# Altium footprint library User_lfy.PcbLib: 18 footprints (part 1 of 2)
Each footprint in its own frame and in the unit in brackets; x right, y up, seen from the top. Pads: shape width x height; smd on the part's side, far side on the other; paste and mask are expansions set on the pad; w line width, h text height; cw(c..) or ccw(c..) is an arc to the next point about the centre after c.
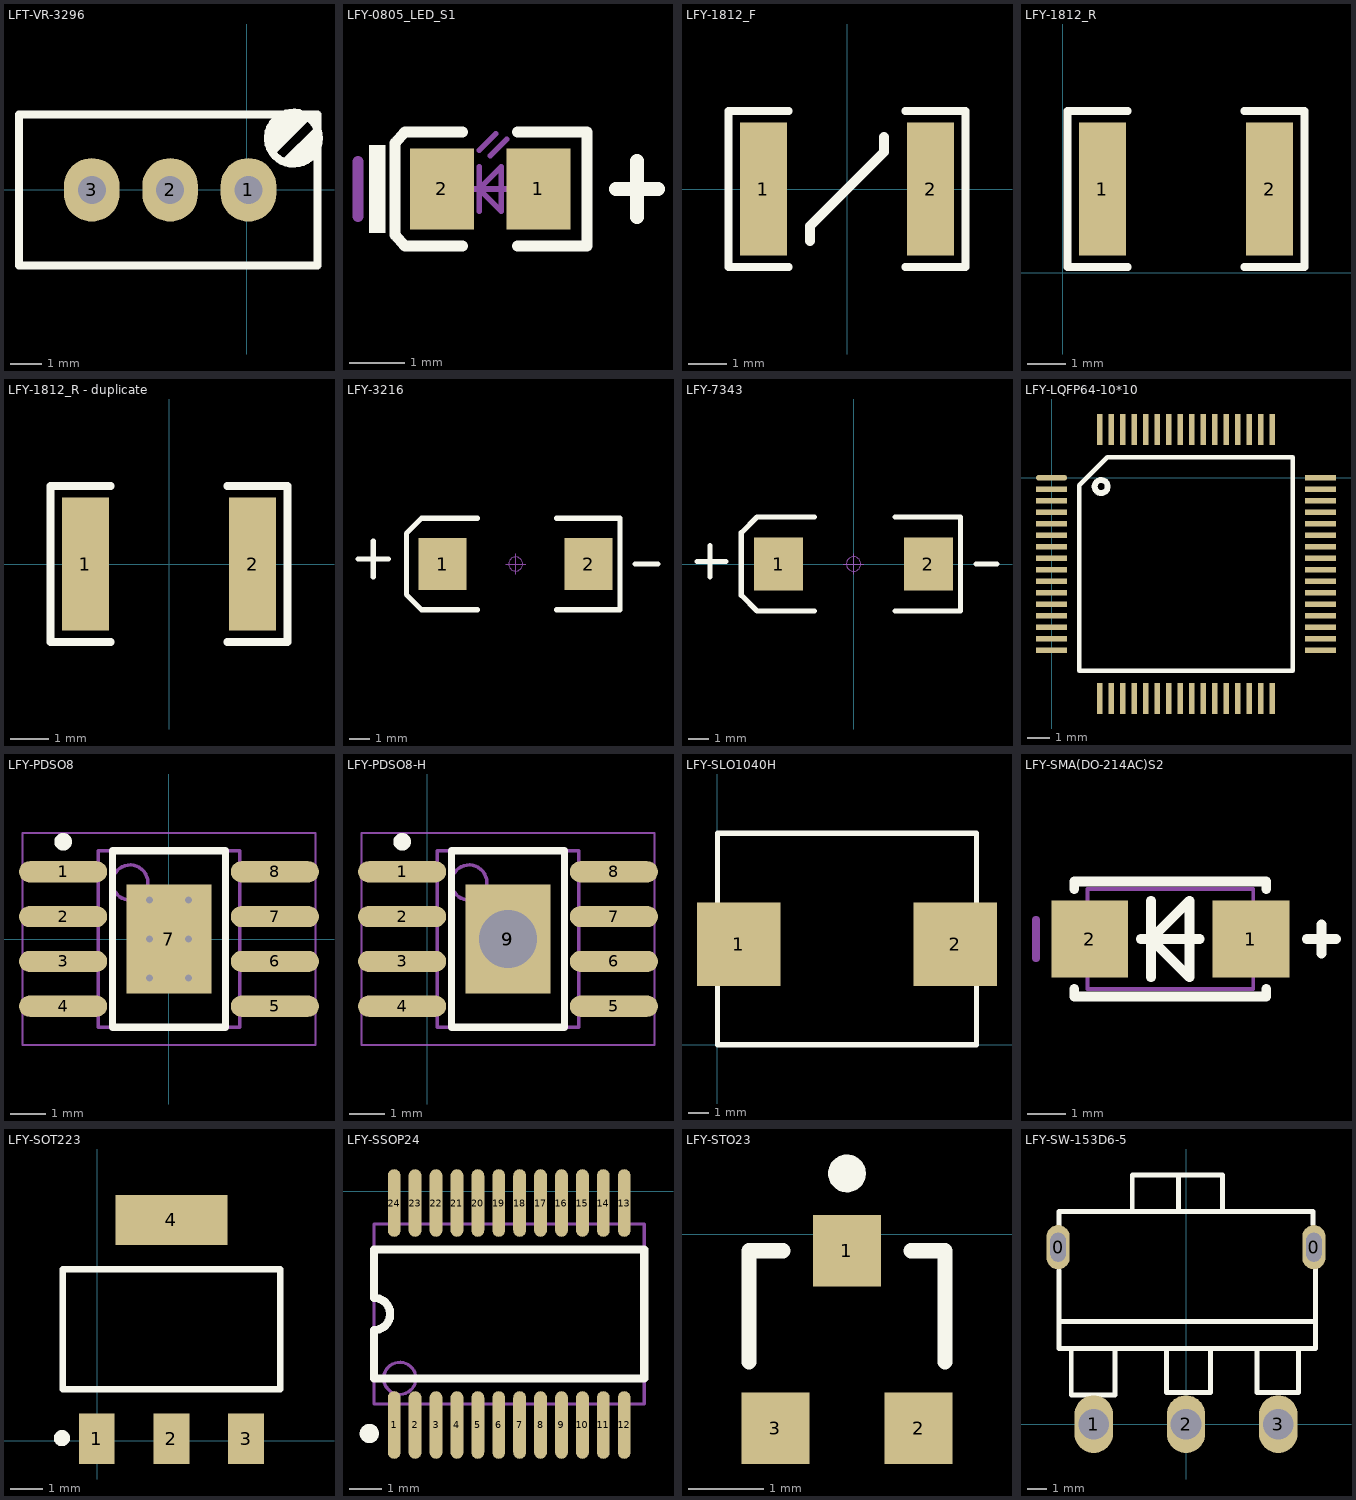
[diagram p0: the footprints below, top view; thin cyan lines are the x and y axes]

## LFT-VR-3296 [mil]
pads (3):
  oval 70x80 hole 35.43: 1(1.85,0) 2(-96.57,0) 3(-195,0)
Top Overlay:
  circle w10: c58.43,65 r32.13
  lines w10: 71.67,41.76 65.18,41.76 ; 73.43,90 58.43,75 33.43,50 28.43,55 68.43,95 48.43,95 ; 88.43,75 48.43,35 58.43,35 ; 38.43,85 48.43,85 ; 38.43,85 48.43,95 ; 38.43,85 28.43,75 28.43,65 48.43,85 ; 48.43,85 58.43,85 48.43,95 ; 48.43,85 48.43,95 ; 58.43,35 74.25,50.82 80.3,50.82 88.43,58.95 88.43,62.89 80.3,54.77 78.19,54.77 78.43,54.53 78.43,41.76 78.43,55 65.18,41.76 ; 58.43,35 65.18,41.76 ; -286.57,-95 -286.57,95 88.43,95 88.43,30 88.43,-95 -286.57,-95

## LFY-0805_LED_S1 [mm]
pads (2):
  rect 1.16x1.47 smd: 1(78.726,3.556) 2(76.976,3.556)
Top Overlay:
  rectangle: 75.651,2.756 75.951,4.356
  lines w0.2: 77.351,2.521 76.301,2.521 76.126,2.721 76.126,4.391 76.301,4.591 77.351,4.591 ; 78.351,2.521 79.606,2.521 79.606,4.591 78.351,4.591
  lines w0.254: 80.137,3.556 80.899,3.556 ; 80.518,3.048 80.518,4.064
Mechanical 13:
  lines w0.1: 77.451,3.556 78.251,3.556 ; 77.651,3.156 77.651,3.956 ; 77.651,4.256 77.951,4.556 ; 77.851,4.156 78.151,4.456 ; 77.651,3.556 78.051,3.156 78.051,3.956 77.651,3.556
Mechanical 15:
  lines w0.203: 75.451,3.056 75.451,4.056
3D body "User Library-led_0805.step": height 1.1, standoff 0, extent 76.841,2.931 78.861,4.181

## LFY-1812_F [mm]
pads (2):
  rect 1.2x3.42 smd: 1(-2.15,0) 2(2.15,0)
Top Overlay:
  lines w0.2: -1.5,-2.01 -3.05,-2.01 -3.05,2.01 -1.5,2.01 ; 1.5,-2.01 3.05,-2.01 3.05,2.01 1.5,2.01
  lines w0.254: -0.953,-1.333 -0.953,-0.953 0.953,0.953 0.953,1.333
3D body "R1812.STEP": height 0.59, standoff -0.01, extent -2.251,-1.6 2.249,1.6

## LFY-1812_R [mm]
pads (2):
  rect 1.2x3.42 smd: 1(1.025,2.159) 2(5.325,2.159)
Top Overlay:
  lines w0.2: 1.675,0.149 0.125,0.149 0.125,4.169 1.675,4.169 ; 4.675,0.149 6.225,0.149 6.225,4.169 4.675,4.169
3D body "R1812.STEP": height 0.59, standoff -0.01, extent 0.924,0.559 5.424,3.759

## LFY-1812_R - duplicate [mm]
height 1.8
pads (2):
  rect 1.2x3.42 smd: 1(-2.15,0) 2(2.15,0)
Top Overlay:
  lines w0.2: -1.5,-2.01 -3.05,-2.01 -3.05,2.01 -1.5,2.01 ; 1.5,-2.01 3.05,-2.01 3.05,2.01 1.5,2.01
3D body "R1812.STEP": height 0.59, standoff -0.01, extent -2.251,-1.6 2.249,1.6

## LFY-3216 [mm]
pads (2):
  rect 2.4x2.6 smd: 1(-196.817,373.634) 2(-189.517,373.634)
Top Overlay:
  lines w0.254: -201.041,373.888 -199.517,373.888 ; -200.279,372.999 -200.279,374.777 ; -195.072,371.348 -197.866,371.348 -198.628,372.11 -198.628,375.158 -197.866,375.92 -195.072,375.92 ; -191.135,371.348 -187.96,371.348 -187.96,375.92 -191.135,375.92 ; -187.198,373.634 -186.055,373.634
Mechanical 15:
  circle w0.05: c-193.167,373.634 r0.35
  lines w0.05: -193.667,373.634 -192.667,373.634 ; -193.167,373.134 -193.167,374.134
3D body "CD D(7343H).STEP": height 2.8, standoff -0.01, extent -196.817,371.484 -189.517,375.784

## LFY-7343 [mm] "长7.3mm，宽4.3mm，厚2.8mm"
height 0.5
pads (2):
  rect 2.4x2.6 smd: 1(-3.65,0) 2(3.65,0)
Top Overlay:
  lines w0.254: -7.62,0.127 -6.223,0.127 ; -6.985,-0.635 -6.985,0.889 ; -1.905,-2.286 -4.699,-2.286 -5.461,-1.524 -5.461,1.524 -4.699,2.286 -1.905,2.286 ; 2.032,-2.286 5.207,-2.286 5.207,2.286 2.032,2.286 ; 5.969,0 6.985,0
Mechanical 15:
  circle w0.05: c0,0 r0.35
  lines w0.05: -0.5,0 0.5,0 ; 0,-0.5 0,0.5
3D body "CD D(7343H).STEP": height 2.8, standoff -0.01, extent -3.65,-2.15 3.65,2.15

## LFY-LQFP64-10*10 [mm]
pads (64):
  oval 1.35x0.25 smd: 1(0,0)
  rect 1.35x0.25 smd: 2(0,-0.5) 3(0,-1) 4(0,-1.5) 5(0,-2) 6(0,-2.5) 7(0,-3) 8(0,-3.5) 9(0,-4) 10(0,-4.5) 11(0,-5) 12(0,-5.5) 13(0,-6) 14(0,-6.5) 15(0,-7) 16(0,-7.5) 33(11.7,-7.5) 34(11.7,-7) 35(11.7,-6.5) 36(11.7,-6) 37(11.7,-5.5) 38(11.7,-5) 39(11.7,-4.5) 40(11.7,-4) 41(11.7,-3.5) 42(11.7,-3) 43(11.7,-2.5) 44(11.7,-2) 45(11.7,-1.5) 46(11.7,-1) 47(11.7,-0.5) 48(11.7,0)
  rect 0.25x1.35 smd: 17(2.1,-9.6) 18(2.6,-9.6) 19(3.1,-9.6) 20(3.6,-9.6) 21(4.1,-9.6) 22(4.6,-9.6) 23(5.1,-9.6) 24(5.6,-9.6) 25(6.1,-9.6) 26(6.6,-9.6) 27(7.1,-9.6) 28(7.6,-9.6) 29(8.1,-9.6) 30(8.6,-9.6) 31(9.1,-9.6) 32(9.6,-9.6) 49(9.6,2.1) 50(9.1,2.1) 51(8.6,2.1) 52(8.1,2.1) 53(7.6,2.1) 54(7.1,2.1) 55(6.6,2.1) 56(6.1,2.1) 57(5.6,2.1) 58(5.1,2.1) 59(4.6,2.1) 60(4.1,2.1) 61(3.6,2.1) 62(3.1,2.1) 63(2.6,2.1) 64(2.1,2.1)
Top Overlay:
  circle w0.254: c2.159,-0.381 r0.284
  lines w0.2: 1.21,-8.39 1.21,-0.32 2.42,0.89 10.49,0.89 10.49,-8.39 1.21,-8.39

## LFY-PDSO8 [mm]
height 1.7
pads (9):
  oval 2.5x0.6 smd: 1(-3,1.905) 2(-3,0.635) 3(-3,-0.635) 4(-3,-1.905) 5(3,-1.905) 6(3,-0.635) 7(3,0.635) 8(3,1.905)
  rect 2.4x3.1 smd: 7(0,0)
via -0.55,1.1 diameter 0.5 hole 0.2
via 0.55,1.1 diameter 0.5 hole 0.2
via -0.55,0 diameter 0.5 hole 0.2
via 0.55,0 diameter 0.5 hole 0.2
via -0.55,-1.1 diameter 0.5 hole 0.2
via 0.55,-1.1 diameter 0.5 hole 0.2
Top Overlay:
  circle w0.25: c-3,2.755 r0.125
  lines w0.2: -1.6,-2.5 -1.6,2.5 1.6,2.5 1.6,-2.5 -1.6,-2.5
Mechanical 13:
  circle w0.1: c-1.1,1.6 r0.5
  lines w0.1: -2,-2.5 -2,2.5 2,2.5 2,-2.5 -2,-2.5
Mechanical 15:
  lines w0.05: -4.15,-3 -4.15,3 4.15,3 4.15,-3 -4.15,-3
  lines w0.1: -0.5,0 0.5,0 ; 0,-0.5 0,0.5
3D body: height 1.7, standoff 0.15, extent -2,-2.5 2,2.5

## LFY-PDSO8-H [mm]
pads (10):
  oval 2.5x0.6 smd: 1(-0.714,7.366) 2(-0.714,6.096) 3(-0.714,4.826) 4(-0.714,3.556) 5(5.286,3.556) 6(5.286,4.826) 7(5.286,6.096) 8(5.286,7.366)
  rect 2.4x3.1 smd: 9(2.286,5.461)
  rect 2.4x3.1 hole 1.651: 9(2.286,5.461)
Top Overlay:
  circle w0.25: c-0.714,8.216 r0.125
  lines w0.2: 0.686,2.961 3.886,2.961 3.886,7.961 0.686,7.961 0.686,2.961
Mechanical 13:
  circle w0.1: c1.186,7.061 r0.5
  lines w0.1: 0.286,2.961 4.286,2.961 4.286,7.961 0.286,7.961 0.286,2.961
Mechanical 15:
  lines w0.05: -1.864,2.461 6.436,2.461 6.436,8.461 -1.864,8.461 -1.864,2.461
  lines w0.1: 1.786,5.461 2.786,5.461 ; 2.286,4.961 2.286,5.961
3D body: height 1.7, standoff 0.15, extent 0.286,2.961 4.286,7.961

## LFY-SLO1040H [mm]
pads (2):
  rect 4x4 smd paste+0: 1(1.016,4.826)
  rect 4x4 smd: 2(11.43,4.826)
Top Overlay:
  lines w0.254: 0,0 12.446,0 12.446,10.16 0,10.16 0,0

## LFY-SMA(DO-214AC)S2 [mm]
pads (2):
  rect 2x2 smd: 1(39.057,9.779) 2(34.857,9.779)
Top Overlay:
  lines w0.254: 34.457,8.479 34.457,8.279 39.457,8.279 39.457,8.479 ; 34.457,11.079 34.457,11.279 39.457,11.279 39.457,11.079 ; 36.187,9.779 37.727,9.779 ; 36.457,8.779 36.457,10.779 ; 40.513,9.779 41.275,9.779 ; 40.894,9.398 40.894,10.16 ; 36.457,9.779 37.457,8.779 37.457,10.779 36.457,9.779
Mechanical 13:
  lines w0.1: 34.797,8.479 39.117,8.479 39.117,11.079 34.797,11.079 34.797,8.479
Mechanical 15:
  lines w0.203: 33.457,9.279 33.457,10.279

## LFY-SOT223 [mm]
pads (4):
  rect 1.1x1.55 smd: 1(-0.014,0.054) 2(2.286,0.054) 3(4.586,0.054)
  rect 3.45x1.55 smd: 4(2.286,6.804)
Top Overlay:
  circle w0.25: c-1.09,0.076 r0.125
  lines w0.2: -1.064,1.579 5.636,1.579 5.636,5.279 -1.064,5.279 -1.064,1.579
3D body: height 0.3, standoff 0, extent 4.191,-0.508 5.08,1.397
3D body: height 0.3, standoff 0, extent 1.778,-0.508 2.667,1.397
3D body: height 0.3, standoff 0, extent -0.508,-0.508 0.381,1.397
3D body: height 0.3, standoff 0, extent 0.635,5.588 3.937,6.858
3D body: height 0.8, standoff 0, extent -1.016,1.397 5.588,5.588

## LFY-SSOP24 [mm]
pads (24):
  oval 0.4x2.1 smd mask+0.051: 1(29.699,-7.26) 2(30.349,-7.26) 3(30.999,-7.26) 4(31.649,-7.26) 5(32.299,-7.26) 6(32.949,-7.26) 7(33.599,-7.26) 8(34.249,-7.26) 9(34.899,-7.26) 10(35.549,-7.26) 11(36.199,-7.26) 12(36.849,-7.26) 13(36.849,-0.36) 14(36.199,-0.36) 15(35.549,-0.36) 16(34.899,-0.36) 17(34.249,-0.36) 18(33.599,-0.36) 19(32.949,-0.36) 20(32.299,-0.36) 21(31.649,-0.36) 22(30.999,-0.36) 23(30.349,-0.36) 24(29.699,-0.36)
Top Overlay:
  circle w0.3: c28.927,-7.525 r0.15
  lines w0.254: 29.074,-5.81 29.074,-4.31 ccw(c29.074,-3.81) 29.074,-3.31 29.074,-1.81 37.474,-1.81 37.474,-5.81 29.074,-5.81
Mechanical 13:
  circle w0.1: c29.874,-5.81 r0.5
  lines w0.1: 29.074,-6.61 29.074,-1.01 37.474,-1.01 37.474,-6.61 29.074,-6.61

## LFY-STO23 [mm]
pads (3):
  rect 0.9x0.95 smd: 1(22.86,-0.222) 2(23.81,-2.572) 3(21.91,-2.572)
Top Overlay:
  circle w0.25: c22.86,0.803 r0.125
  lines w0.2: 21.56,-1.697 21.56,-0.222 22.01,-0.222 ; 23.71,-0.222 24.16,-0.222 24.16,-1.697

## LFY-SW-153D6-5 [mm]
pads (5):
  oval 1.2x2.3 hole 0.8 slot 1.5 at 90 deg: 0(-6.65,9.2) 0(6.65,9.2)
  oval 2x3 hole 1.6: 1(-4.8,0) 2(0,0) 3(4.8,0)
Top Overlay:
  lines w0.254: -6.604,5.334 6.731,5.334 ; -6.604,8.001 -6.604,3.937 6.731,3.937 6.731,8.128 ; -6.604,10.287 -6.604,11.049 6.604,11.049 6.604,10.414 ; -5.969,3.937 -5.969,1.524 -3.683,1.524 -3.683,3.937 ; -2.794,11.176 -2.794,12.954 -2.286,12.954 -0.381,12.954 ; -1.016,3.937 -1.016,1.651 1.27,1.651 1.27,3.937 ; -0.381,11.049 -0.381,12.954 ; 1.905,11.049 1.905,12.954 -0.381,12.954 ; 3.683,3.937 3.683,1.651 5.842,1.651 5.842,3.937